# Altium schematic symbol library custom_parts_old.SchLib: 24 symbols
Pins are listed as number, name and electrical type; pins without a type are passive.

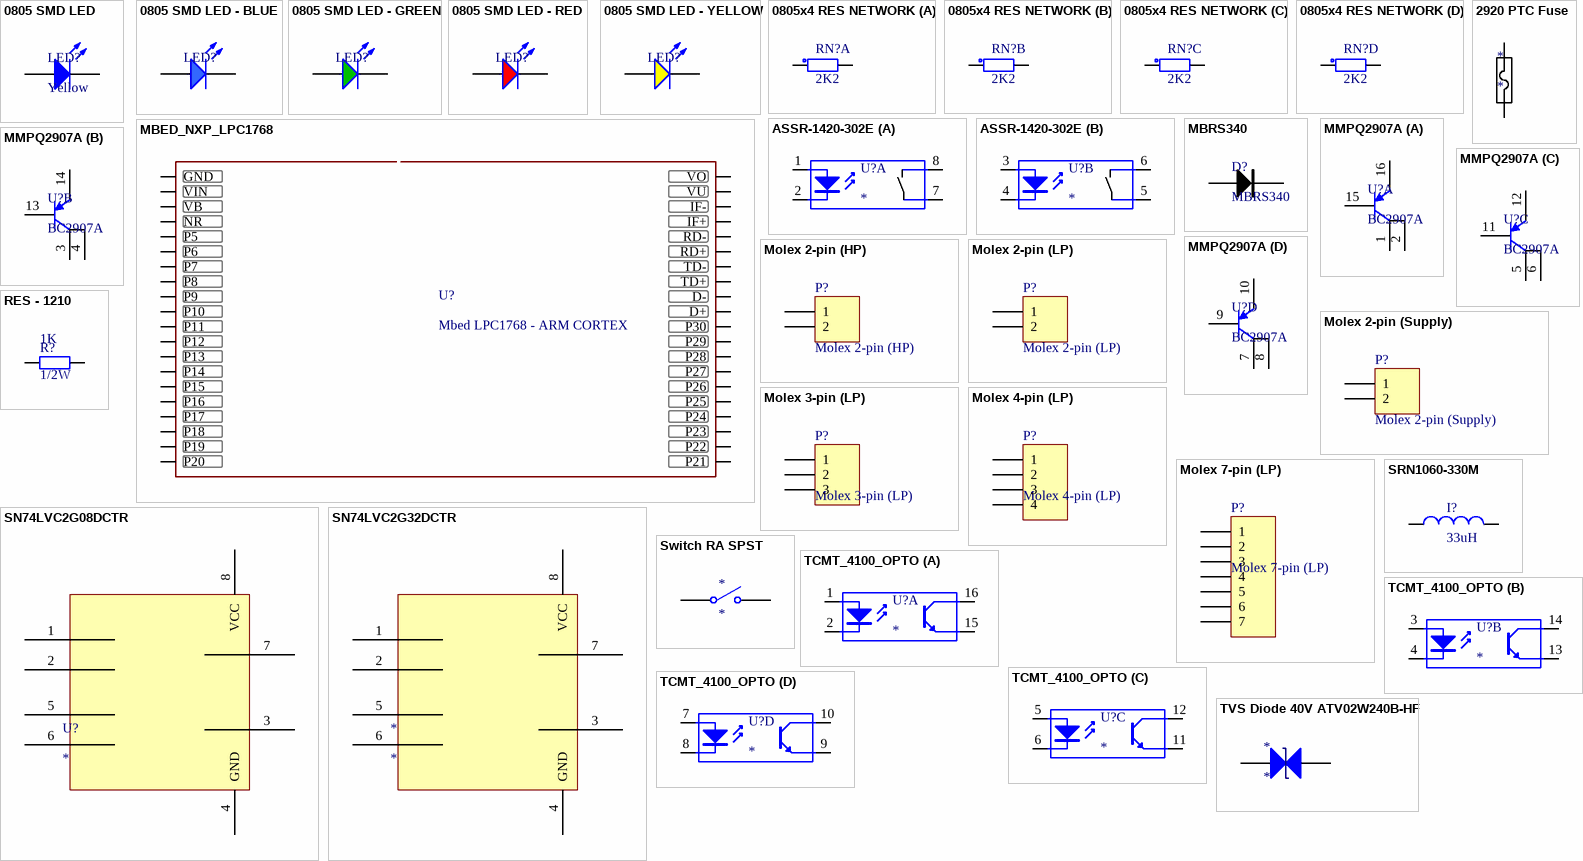
[diagram p0: symbols 0805 SMD LED to TVS Diode 40V ATV02W240B-HF]

## 0805 SMD LED
designator LED?, comment Yellow
footprint 0805LED
pins: A, K

## 0805 SMD LED - BLUE
designator LED?, comment Yellow  (value not drawn)
Supplier 1: Digi-Key; Supplier Part Number 1: 160-1645-1-ND
footprint 0805LED - BLUE
pins: A, K

## 0805 SMD LED - GREEN
designator LED?, comment Green  (value not drawn)
Supplier 1: Digi-Key; Supplier Part Number 1: 160-1426-1-ND
footprint 0805LED - GREEN
pins: A, K

## 0805 SMD LED - RED
designator LED?, comment Red  (value not drawn)
Supplier 1: Digi-Key; Supplier Part Number 1: 160-1427-1-ND
footprint 0805LED - RED
pins: A, K

## 0805 SMD LED - YELLOW
designator LED?, comment Yellow  (value not drawn)
Supplier 1: Digi-Key; Supplier Part Number 1: 160-1428-1-ND
footprint 0805LED - YELLOW
pins: A, K

## 0805x4 RES NETWORK
designator RN?, comment 2K2
footprint 4x0805_Network
part A pins: 1, 2
part B pins: 3, 4
part C pins: 5, 6
part D pins: 7, 8

## 2920 PTC Fuse
designator *
footprint PTC Fuse: 2920 (Chip Resistor, 2-Leads, Body 7.36x5.12mm, IPC Low Density)
pins: 1, 2

## ASSR-1420-302E
designator U?
footprint ASSR1420_GULL
part A pins: 1 A "Anode", 2 K "Cathode", 7 E "Emitter", 8 C "Collector"
part B pins: 3 A "Anode", 4 K "Cathode", 5 E "Emitter", 6 C "Collector"

## MBED_NXP_LPC1768
designator U?, comment Mbed LPC1768 - ARM CORTEX
footprint MBED-KIT
pins: D+, D-, GND (power), IF+, IF-, NR (power), P$5 P5, P$6 P6, P$7 P7, P$8 P8, P$9 P9, P$10 P10, P$11 P11, P$12 P12, P$13 P13, P$14 P14, P$15 P15, P$16 P16, P$17 P17, P$18 P18, P$19 P19, P$20 P20, P$21 P21, P$22 P22, P$23 P23, P$24 P24, P$25 P25, P$26 P26, P$27 P27, P$28 P28, P$29 P29, P$30 P30, RD+, RD-, TD+, TD-, VB (power), VIN (power), VOUT VO (power), VU (power)

## MBRS340
designator D?
footprint MBRS340_DO-214AB
pins: A, K

## MMPQ2907A
designator U?, comment BC2907A
footprint MPQ2907 - 16SOIC (SOIC, 16-Leads, Body 9.90x3.90mm, Pitch 1.27mm, IPC Low Density)
part A pins: 1 C, 2 C, 15 B, 16 E
part B pins: 3 C, 4 C, 13 B, 14 E
part C pins: 5 C, 6 C, 11 B, 12 E
part D pins: 7 C, 8 C, 9 B, 10 E

## Molex 2-pin (HP)
designator P?
Header, 2-Pin; LatestRevisionDate: 17-Jul-2002; LatestRevisionNote: Re-released for DXP Platform.; Publisher: Altium Limited
footprint MOLEX_2_HP
signal-integrity model Connector
pins: 1, 2

## Molex 2-pin (LP)
designator P?
Header, 2-Pin; LatestRevisionDate: 17-Jul-2002; LatestRevisionNote: Re-released for DXP Platform.; Publisher: Altium Limited
footprint MOLEX_2 (Connector; Header; 2 Position)
signal-integrity model Connector
pins: 1, 2

## Molex 2-pin (Supply)
designator P?
Header, 2-Pin; LatestRevisionDate: 17-Jul-2002; LatestRevisionNote: Re-released for DXP Platform.; Publisher: Altium Limited
footprint MOLEX_2_SUPPLY
signal-integrity model Connector
pins: 1, 2

## Molex 3-pin (LP)
designator P?
Header, 3-Pin; LatestRevisionDate: 17-Jul-2002; LatestRevisionNote: Re-released for DXP Platform.; Publisher: Altium Limited
footprint MOLEX_3 (Connector; Header; 2 Position)
signal-integrity model Connector
pins: 1, 2, 3

## Molex 4-pin (LP)
designator P?
Header, 4-Pin; LatestRevisionDate: 17-Jul-2002; LatestRevisionNote: Re-released for DXP Platform.; Publisher: Altium Limited
footprint MOLEX_4 (Connector; Header; 2 Position)
signal-integrity model Connector
pins: 1, 2, 3, 4

## Molex 7-pin (LP)
designator P?
Header, 7-Pin; LatestRevisionDate: 17-Jul-2002; LatestRevisionNote: Re-released for DXP Platform.; Publisher: Altium Limited
footprint MOLEX_7 (Connector; Header; 2 Position)
signal-integrity model Connector
pins: 1, 2, 3, 4, 5, 6, 7

## RES - 1210
designator R?, comment 1/2W  value 1K
Resistor; Published: 8-Jun-2000; LatestRevisionDate: 17-Jul-2002; LatestRevisionNote: Re-released for DXP Platform.; PackageReference: AXIAL-0.4; Publisher: Altium Limited; PackageDescription: Axial Device, Thru-Hole; 2 Leads; 0.4 in Pin Spacing
footprint 1210_res
simulation model RESISTOR (Resistor)
signal-integrity model Res
pins: 1, 2

## SN74LVC2G08DCTR
designator U?
footprint SN74LVC2G32 - LSSOP-8 (TSOP, 8-Leads, Body 2.95x2.80mm, Pitch 0.65mm, IPC Low Density)
pins: 1 1A, 2 1A, 3 1A, 4 GND, 5 1A, 6 1A, 7 1A, 8 VCC

## SN74LVC2G32DCTR
designator *
pins: 1 1A, 2 1A, 3 1A, 4 GND, 5 1A, 6 1A, 7 1A, 8 VCC

## SRN1060-330M
designator I?, comment 33uH
pins: 1, 2

## Switch RA SPST
designator *
pins: 1 COMMON, 2 NO

## TCMT_4100_OPTO
designator U?
footprint TCMT4100 (16-SOP)
part A pins: 1 A "Anode", 2 K "Cathode", 15 E "Emitter", 16 C "Collector"
part B pins: 3 A "Anode", 4 K "Cathode", 13 E "Emitter", 14 C "Collector"
part C pins: 5 A "Anode", 6 K "Cathode", 11 E "Emitter", 12 C "Collector"
part D pins: 7 A "Anode", 8 K "Cathode", 9 E "Emitter", 10 C "Collector"

## TVS Diode 40V ATV02W240B-HF
designator *
footprint TVS_SOD-123F
pins: A, K